# Altium schematic symbol library S6B-ZR-SM4A-TF.Schlib: 1 symbol
Pins are listed as number, name and electrical type; pins without a type are passive.

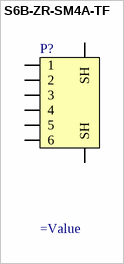
[diagram p0: symbol S6B-ZR-SM4A-TF]

## S6B-ZR-SM4A-TF
designator P?
footprint S6B-ZR-SM4A-TF (*JST_S6B-ZR-SM4A-TF(LF)(SN)_S6B-ZR-SM4A-TF(LF)(SN)(Primary))
pins: 1, 2, 3, 4, 5, 6, SH1 SH, SH2 SH